# Altium footprint library 针式瓷片电容.PcbLib: 4 footprints
Each footprint in its own frame and in the unit in brackets; x right, y up, seen from the top. Pads: shape width x height; smd on the part's side, far side on the other; paste and mask are expansions set on the pad; w line width, h text height; cw(c..) or ccw(c..) is an arc to the next point about the centre after c.
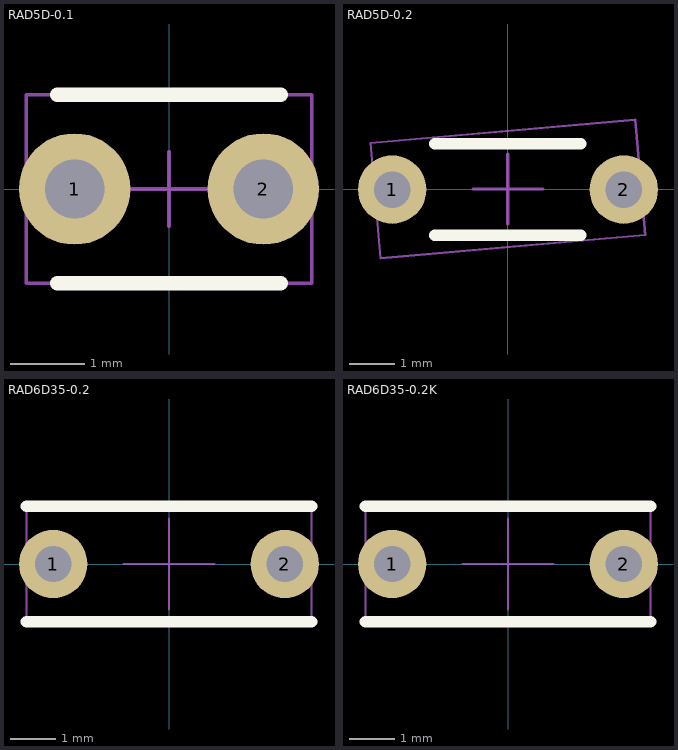
[diagram p0: the footprints below, top view; thin cyan lines are the x and y axes]

## RAD5D-0.1 [mm] "针式瓷片电容"
height 7
pads (2):
  round 1.5 hole 0.8 unplated: 1(-1.27,0) 2(1.27,0)
Top Overlay:
  lines w0.2: -1.5,-1.27 1.5,-1.27 ; -1.5,1.27 1.5,1.27
Mechanical 1:
  lines w0.05: -1.921,-1.27 -1.921,1.27 1.921,1.27 1.921,-1.27 -1.921,-1.27
Mechanical 15:
  lines w0.05: -0.5,0 0.5,0 ; 0,-0.5 0,0.5
3D body: height 5.43, standoff -3, extent -1.921,-1.27 1.921,1.27

## RAD5D-0.2 [mm] "针式瓷片电容"
height 7
pads (2):
  round 1.5 hole 0.8: 1(-2.537,-0.012) 2(2.543,-0.012)
Top Overlay:
  lines w0.254: -1.6,-1.016 1.6,-1.016 ; -1.6,0.991 1.6,0.991
Mechanical 13:
  lines w0.05: -3.015,1.011 -2.793,-1.519 3.015,-1.011 2.793,1.519 -3.015,1.011
Mechanical 15:
  lines w0.076: -0.762,0 0.762,0 ; 0,-0.762 0,0.762
3D body: height 5.93, standoff -3.5, extent -3.015,-1.519 3.015,1.519

## RAD6D35-0.2 [mm] "针式瓷片电容"
height 8
pads (2):
  round 1.5 hole 0.8 unplated: 1(-2.54,0) 2(2.54,0)
Top Overlay:
  lines w0.254: -3.126,-1.27 3.126,-1.27 ; -3.126,1.27 3.126,1.27
Mechanical 13:
  lines w0.05: -3.126,-1.27 3.126,-1.27 3.126,1.27 -3.126,1.27 -3.126,-1.27
Mechanical 15:
  lines w0.05: -1,0 1,0 ; 0,-1 0,1
3D body: height 8.13, standoff -4.4, extent -3.126,-1.27 3.126,1.27

## RAD6D35-0.2K [mm] "针式瓷片电容"
height 8
pads (2):
  round 1.5 hole 0.8 unplated: 1(-2.54,0) 2(2.54,0)
Top Overlay:
  lines w0.254: -3.126,-1.27 3.126,-1.27 ; -3.126,1.27 3.126,1.27
Mechanical 13:
  lines w0.05: -3.126,-1.27 -3.126,1.27 3.126,1.27 3.126,-1.27 -3.126,-1.27
Mechanical 15:
  lines w0.05: -1,0 1,0 ; 0,-1 0,1
3D body: height 10.13, standoff -3.37, extent -3.126,-1.27 3.126,1.27